# EAGLE library part EDGEMOUNTDB25 (library Serial)
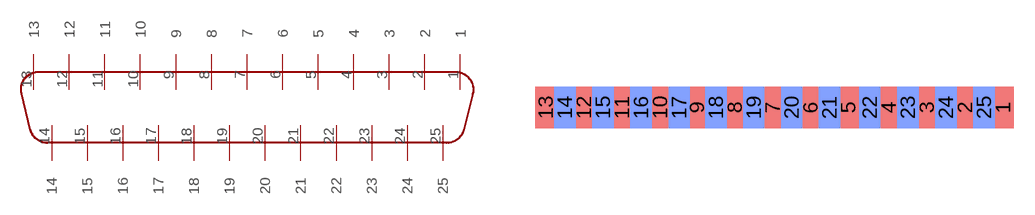
[diagram p1: symbol with the pads of DB25; footprint DB25]

Designator prefix -

## EDGEMOUNTDB25  [DB25]
1  1
2  2
3  3
4  4
5  5
6  6
7  7
8  8
9  9
10  10
11  11
12  12
13  13
14  14
15  15
16  16
17  17
18  18
19  19
20  20
21  21
22  22
23  23
24  24
25  25

## Footprint DB25 (pad centres in mm)
smd 1.54 x 3: 1 16.687,-0.093; 2 13.927,-0.093; 3 11.167,-0.093; 4 8.407,-0.093; 5 5.48,-0.1; 6 2.74,-0.1; 7 0,-0.1; 8 -2.74,-0.1; 9 -5.48,-0.1; 10 -8.153,-0.093; 11 -10.913,-0.093; 12 -13.673,-0.093; 13 -16.433,-0.093
smd 1.54 x 3 bottom: 14 -15.053,-0.093; 15 -12.293,-0.093; 16 -9.533,-0.093; 17 -6.773,-0.093; 18 -4.11,-0.1; 19 -1.37,-0.1; 20 1.37,-0.1; 21 4.11,-0.1; 22 7.027,-0.093; 23 9.787,-0.093; 24 12.547,-0.093; 25 15.307,-0.093